# EAGLE library part MCP4161 (library MCP4161)
Digital POTENTIOMETER
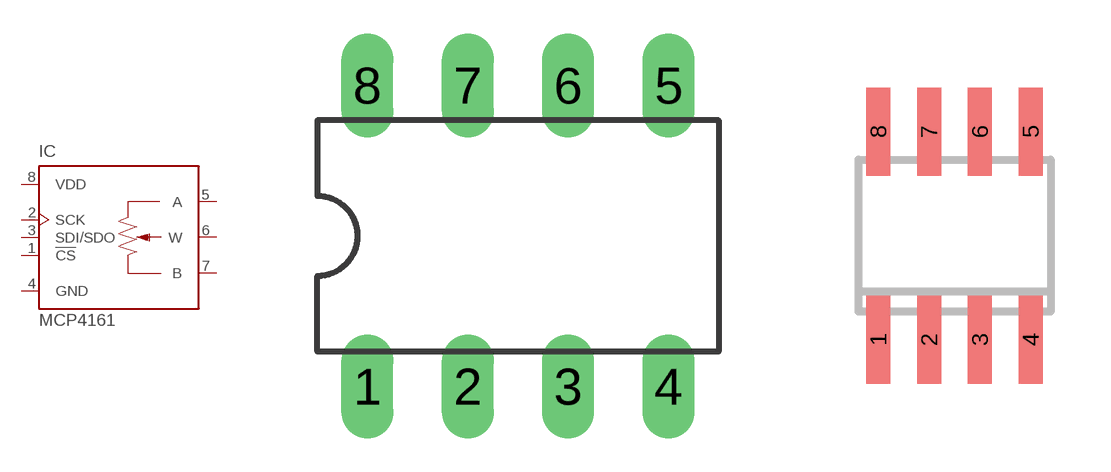
[diagram p0: symbol with the pads of DIL08; footprints DIL08, SOIC08]

Designator prefix IC

## MCP4161P  [DIL08]
1  !CS  in
2  SCK  in
3  SDI/SDO
4  GND  pwr
5  A  pas
6  W  pas
7  B  pas
8  VDD  pwr

## MCP4161SOIC  [SOIC08]
Pads as for DIL08

## Footprint DIL08 (pad centres in mm)
Dual In Line Package
drill 0.813 long: 1 -3.81,-3.81; 2 -1.27,-3.81; 3 1.27,-3.81; 4 3.81,-3.81; 5 3.81,3.81; 6 1.27,3.81; 7 -1.27,3.81; 8 -3.81,3.81

## Footprint SOIC08 (pad centres in mm)
Small Outline Package
smd 0.6 x 2.2: 1 -1.905,-2.6; 2 -0.635,-2.6; 3 0.635,-2.6; 4 1.905,-2.6; 5 1.905,2.6; 6 0.635,2.6; 7 -0.635,2.6; 8 -1.905,2.6